# Altium footprint library RUT_xE310_PCB.PcbLib: 42 footprints (part 3 of 3)
Each footprint in its own frame and in the unit in brackets; x right, y up, seen from the top. Pads: shape width x height; smd on the part's side, far side on the other; paste and mask are expansions set on the pad; w line width, h text height; cw(c..) or ccw(c..) is an arc to the next point about the centre after c.
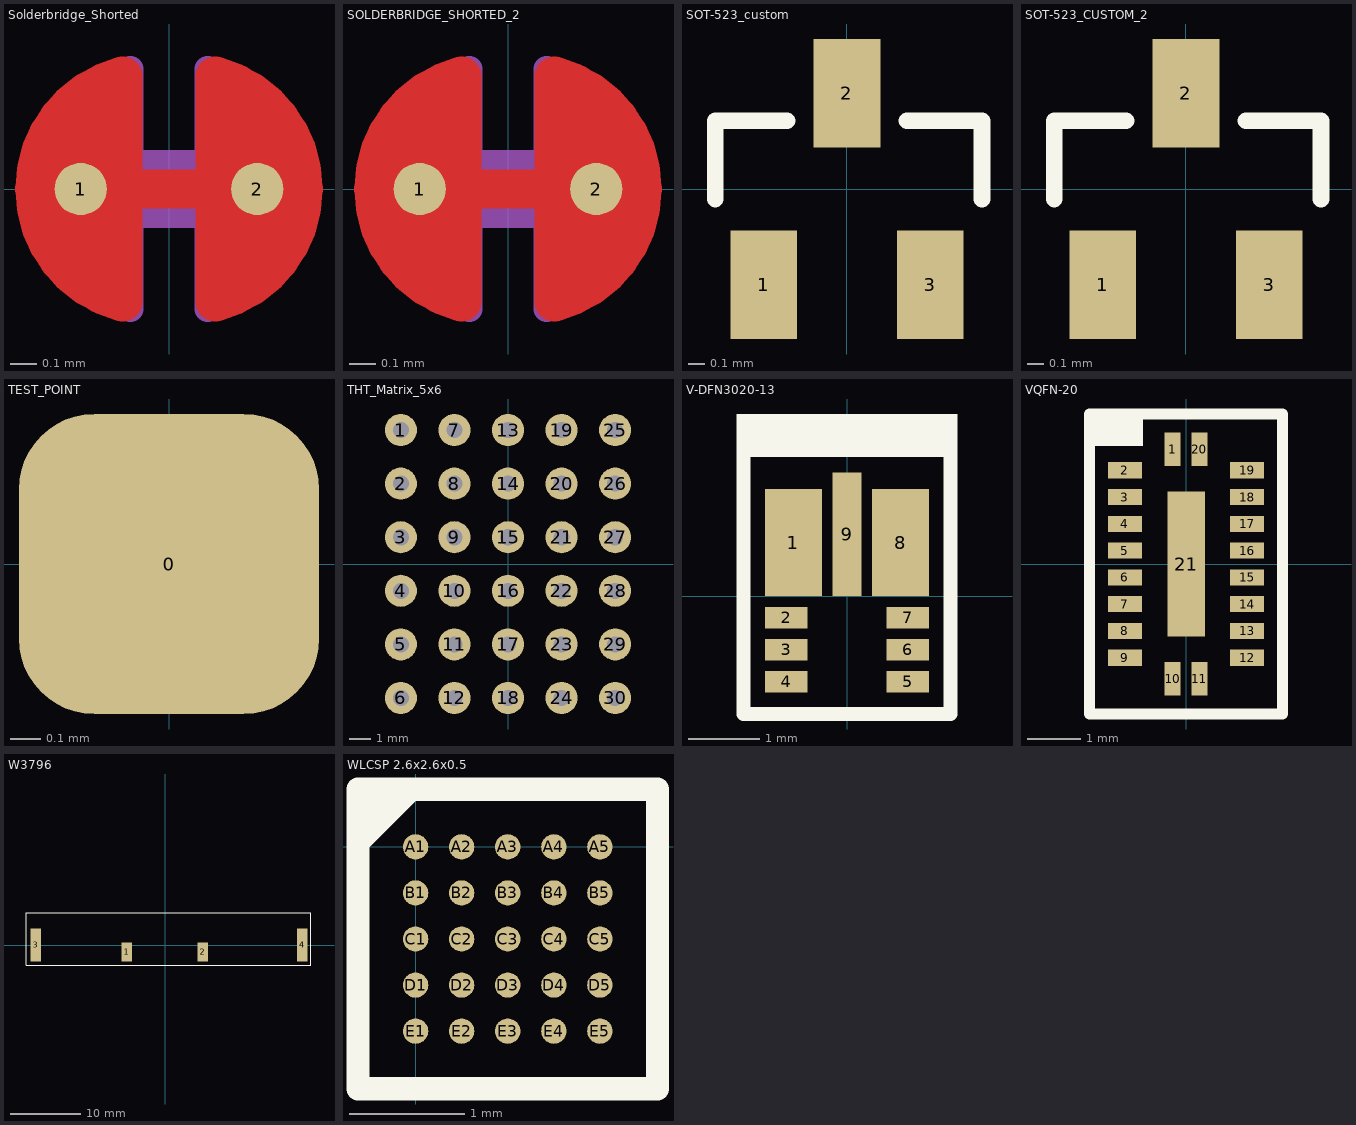
[diagram p2: the footprints below, top view; thin cyan lines are the x and y axes]

## Solderbridge_Shorted [mm]
pads (2):
  round 0.2 smd paste-10: 1(-0.338,0) 2(0.338,0)
Top Layer:
  region: 0.102,0.432 0.178,0.505 0.296,0.467 0.361,0.424 0.434,0.351 0.488,0.292 0.546,0.193 0.574,0.099 0.569,-0.122 0.544,-0.193 0.46,-0.33 0.376,-0.411 0.284,-0.469 0.183,-0.5 0.132,-0.483 0.102,-0.43
  region: -0.102,-0.432 -0.178,-0.505 -0.296,-0.467 -0.361,-0.424 -0.434,-0.351 -0.488,-0.292 -0.546,-0.193 -0.574,-0.099 -0.569,0.122 -0.544,0.193 -0.46,0.33 -0.376,0.411 -0.284,0.469 -0.183,0.5 -0.132,0.483 -0.102,0.43
  lines w0.15: -0.338,0 0.338,0
  lines w0.152: -0.178,-0.431 cw(c-0.068,0) -0.178,0.431 ; 0.178,-0.431 ccw(c0.068,0) 0.178,0.431
Top Solder:
  circle w0.61: c-0.028,0 r0.279
  circle w0.61: c0.028,0 r0.279
Mechanical 7:
  lines w0.1: -0.148,-0.459 cw(c-0.067,0) -0.148,0.459 -0.148,0.1 0.148,0.1 0.148,0.459 cw(c0.067,0) 0.148,-0.459 0.148,-0.1 -0.148,-0.1 -0.148,-0.459

## SOLDERBRIDGE_SHORTED_2 [mm]
pads (2):
  round 0.2 smd paste-10: 1(-0.338,0) 2(0.338,0)
Top Layer:
  region: 0.102,0.432 0.178,0.505 0.296,0.467 0.361,0.424 0.434,0.351 0.488,0.292 0.546,0.193 0.574,0.099 0.569,-0.122 0.544,-0.193 0.46,-0.33 0.376,-0.411 0.284,-0.469 0.183,-0.5 0.132,-0.483 0.102,-0.43
  region: -0.102,-0.432 -0.178,-0.505 -0.296,-0.467 -0.361,-0.424 -0.434,-0.351 -0.488,-0.292 -0.546,-0.193 -0.574,-0.099 -0.569,0.122 -0.544,0.193 -0.46,0.33 -0.376,0.411 -0.284,0.469 -0.183,0.5 -0.132,0.483 -0.102,0.43
  lines w0.15: -0.338,0 0.338,0
  lines w0.152: -0.178,-0.431 cw(c-0.068,0) -0.178,0.431 ; 0.178,-0.431 ccw(c0.068,0) 0.178,0.431
Top Solder:
  circle w0.61: c-0.028,0 r0.279
  circle w0.61: c0.028,0 r0.279
Mechanical 7:
  lines w0.1: -0.148,-0.459 cw(c-0.067,0) -0.148,0.459 -0.148,0.1 0.148,0.1 0.148,0.459 cw(c0.067,0) 0.148,-0.459 0.148,-0.1 -0.148,-0.1 -0.148,-0.459

## SOT-523_custom [mm]
pads (3):
  rect 0.4x0.65 smd: 1(-0.5,-0.575) 2(0,0.575) 3(0.5,-0.575)
Top Overlay:
  lines w0.1: -0.79,-0.06 -0.79,0.41 -0.36,0.41 ; 0.36,0.41 0.81,0.41 0.81,-0.06
3D body "User Library-SOT-523.step": height 0.8, standoff 0, extent -0.79,-0.81 0.81,0.79

## SOT-523_CUSTOM_2 [mm]
pads (3):
  rect 0.4x0.65 smd: 1(-0.5,-0.575) 2(0,0.575) 3(0.5,-0.575)
Top Overlay:
  lines w0.1: -0.79,-0.06 -0.79,0.41 -0.36,0.41 ; 0.36,0.41 0.81,0.41 0.81,-0.06
3D body "User Library-SOT-523.step": height 0.8, standoff 0, extent -0.79,-0.81 0.81,0.79

## TEST_POINT [mm] "Rounded Corners Test Point"
pads (1):
  rrect50% 1x1 smd: 0(0,0)

## THT_Matrix_5x6 [mil]
pads (30):
  round 60 hole 30: 1(-200,250) 2(-200,150) 3(-200,50) 4(-200,-50) 5(-200,-150) 6(-200,-250) 7(-100,250) 8(-100,150) 9(-100,50) 10(-100,-50) 11(-100,-150) 12(-100,-250) 13(0,250) 14(0,150) 15(0,50) 16(0,-50) 17(0,-150) 18(0,-250) 19(100,250) 20(100,150) 21(100,50) 22(100,-50) 23(100,-150) 24(100,-250) 25(200,250) 26(200,150) 27(200,50) 28(200,-50) 29(200,-150) 30(200,-250)

## V-DFN3020-13 [mm]
height 0.85
pads (9):
  rect 0.8x1.5 smd: 1(-0.75,0.75) 8(0.75,0.75)
  rect 0.6x0.3 smd: 2(-0.85,-0.3) 3(-0.85,-0.75) 4(-0.85,-1.2) 5(0.85,-1.2) 6(0.85,-0.75) 7(0.85,-0.3)
  rect 0.4x1.73 smd: 9(0,0.865)
Top Overlay:
  rectangle: -1.55,2.05 1.55,2.55
  lines w0.2: -1.45,-1.65 1.45,-1.65 1.45,2.05 -1.45,2.05 -1.45,-1.65
3D body: height 0.86, standoff 0.85, extent -1.025,1.15 1.025,1.55
3D body: height 0.85, standoff 0, extent -1.025,-1.5 1.025,1.55

## VQFN-20 [mm]
height 0.8
pads (21):
  rect 0.3x0.63 smd: 1(-0.25,2.14) 10(-0.25,-2.14) 11(0.25,-2.14) 20(0.25,2.14)
  rect 0.63x0.3 smd: 2(-1.14,1.75) 3(-1.14,1.25) 4(-1.14,0.75) 5(-1.14,0.25) 6(-1.14,-0.25) 7(-1.14,-0.75) 8(-1.14,-1.25) 9(-1.14,-1.75) 12(1.14,-1.75) 13(1.14,-1.25) 14(1.14,-0.75) 15(1.14,-0.25) 16(1.14,0.25) 17(1.14,0.75) 18(1.14,1.25) 19(1.14,1.75)
  rect 0.7x2.7 smd: 21(0,0)
Top Overlay:
  rectangle: -1.8,2.2 -0.8,2.8
  lines w0.2: -1.8,-2.8 -1.8,2.8 1.8,2.8 1.8,-2.8 -1.8,-2.8
3D body: height 0.81, standoff 0.8, extent -1.1,1.9 -0.9,2.1
3D body: height 0.8, standoff 0, extent -1.25,-2.25 1.25,2.25

## W3796 [mm] "LTE Antenna"
height 3
pads (4):
  rect 1.5x2.72 smd: 1(-5.45,-0.94) 2(5.34,-0.94)
  rect 1.5x4.72 smd: 3(-18.45,0.05) 4(19.55,0.05)
Top Overlay:
  lines w0.1: -19.75,-2.85 20.75,-2.85 20.75,4.65 -19.75,4.65 -19.75,-2.85
Mechanical 1:
  lines w0.1: -5.4,-1.1 -5.4,0 ; 5.4,-1.1 5.4,0
3D body "w3796_221118.stp": height 3.05, standoff -0.05, extent -19.5,-2.6 20.5,4.4

## WLCSP 2.6x2.6x0.5 [mm] "WLCSP (2.6x2.6x0.5) 25 bumps"
height 0.5
pads (25):
  round 0.22 smd: A1(0,0) A2(0.4,0) A3(0.8,0) A4(1.2,0) A5(1.6,0) B1(0,-0.4) B2(0.4,-0.4) B3(0.8,-0.4) B4(1.2,-0.4) B5(1.6,-0.4) C1(0,-0.8) C2(0.4,-0.8) C3(0.8,-0.8) C4(1.2,-0.8) C5(1.6,-0.8) D1(0,-1.2) D2(0.4,-1.2) D3(0.8,-1.2) D4(1.2,-1.2) D5(1.6,-1.2) E1(0,-1.6) E2(0.4,-1.6) E3(0.8,-1.6) E4(1.2,-1.6) E5(1.6,-1.6)
Top Overlay:
  region: -0.493,-0.093 0.093,0.493 -0.5,0.5
  lines w0.2: -0.5,-2.1 2.1,-2.1 2.1,0.5 -0.5,0.5 -0.5,-2.1
Mechanical 1:
  lines w0.01: -0.496,-2.1 -0.496,0.5 2.104,0.5 2.104,-2.1 -0.496,-2.1
3D body: height 0.51, standoff 0.5, extent -0.3,0.145 -0.138,0.3
3D body: height 0.3, standoff -0.3, extent 2.6,-0.1 2.6,-0.1
3D body: height 0.5, standoff 0.2, extent -0.496,-2.1 2.104,0.5
3D body: height 0.28, standoff -0.01, extent -0.139,-1.745 0.148,-1.455
3D body: height 0.28, standoff -0.01, extent 0.261,-1.745 0.548,-1.455
3D body: height 0.28, standoff -0.01, extent 0.661,-1.745 0.948,-1.455
3D body: height 0.28, standoff -0.01, extent 1.061,-1.745 1.348,-1.455
3D body: height 0.28, standoff -0.01, extent 1.461,-1.745 1.748,-1.455
3D body: height 0.28, standoff -0.01, extent -0.139,-1.345 0.147,-1.055
3D body: height 0.28, standoff -0.01, extent 0.261,-1.345 0.547,-1.055
3D body: height 0.28, standoff -0.01, extent 0.661,-1.345 0.947,-1.055
3D body: height 0.28, standoff -0.01, extent 1.061,-1.345 1.347,-1.055
3D body: height 0.28, standoff -0.01, extent 1.461,-1.345 1.747,-1.055
3D body: height 0.28, standoff -0.01, extent -0.139,-0.945 0.148,-0.655
3D body: height 0.28, standoff -0.01, extent 0.261,-0.945 0.548,-0.655
3D body: height 0.28, standoff -0.01, extent 0.661,-0.945 0.948,-0.655
3D body: height 0.28, standoff -0.01, extent 1.061,-0.945 1.348,-0.655
3D body: height 0.28, standoff -0.01, extent 1.461,-0.945 1.748,-0.655
3D body: height 0.28, standoff -0.01, extent -0.139,-0.545 0.148,-0.255
3D body: height 0.28, standoff -0.01, extent 0.261,-0.545 0.548,-0.255
3D body: height 0.28, standoff -0.01, extent 0.661,-0.545 0.948,-0.255
3D body: height 0.28, standoff -0.01, extent 1.061,-0.545 1.348,-0.255
3D body: height 0.28, standoff -0.01, extent 1.461,-0.545 1.748,-0.255
3D body: height 0.28, standoff -0.01, extent 1.461,-0.145 1.748,0.145
3D body: height 0.28, standoff -0.01, extent 1.061,-0.145 1.348,0.145
3D body: height 0.28, standoff -0.01, extent 0.661,-0.145 0.948,0.145
3D body: height 0.28, standoff -0.01, extent 0.261,-0.145 0.548,0.145
3D body: height 0.28, standoff -0.01, extent -0.139,-0.145 0.148,0.145